# EAGLE library part OPAMP:OPA690(500MHZ,1.8KV/US) (library QuantumOptics)
OPA690, T.I., fast opamp, Vslew=1800V/uS, supply 5-12V, GBW=500MHz.
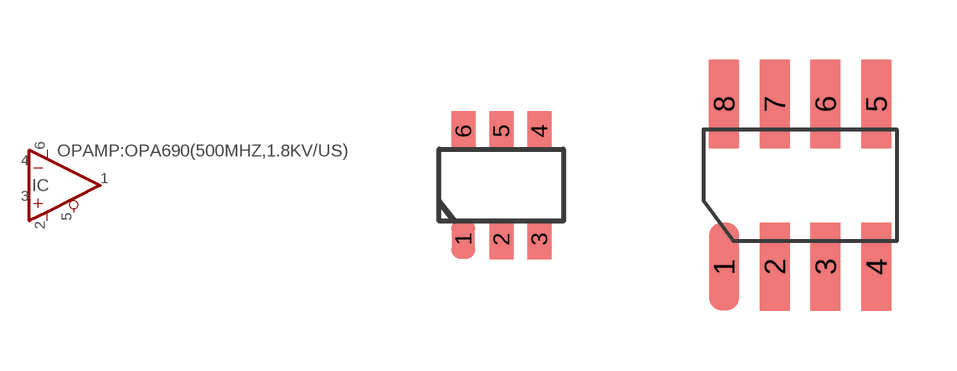
[diagram p30: symbol with the pads of SOT23-6; footprints SOT23-6, SOIC-8]

Designator prefix IC

## OPAMP:OPA690(500MHZ,1.8KV/US)DBV  [SOT23-6]
1  OUT  out
2  V-  in
3  +IN  in
4  -IN  in
5  ~DIS  pas
6  V+  in

## OPAMP:OPA690(500MHZ,1.8KV/US)D  [SOIC-8]
2  -IN  in
3  +IN  in
4  V-  in
6  OUT  out
7  V+  in
8  ~DIS  pas

## Footprint SOT23-6 (pad centres in mm)
SOT-23 6-pin, on wonderful 0.95mm (~0.037") pad-pad spacing.
smd 0.6 x 1: 1 -0.95,-1.35; 2 0,-1.35; 3 0.95,-1.35; 4 0.95,1.35; 5 0,1.35; 6 -0.95,1.35

## Footprint SOIC-8 (pad centres in mm)
SOIC-8 (AKA SO-8), pads on 0.050" grid.
smd 0.75 x 2.2: 1 -1.27,-2.032; 2 0,-2.032; 3 1.27,-2.032; 4 2.54,-2.032; 5 2.54,2.032; 6 1.27,2.032; 7 0,2.032; 8 -1.27,2.032